# EAGLE library part AGNUS_8361 (library Amiga)
A1000 original Agnus
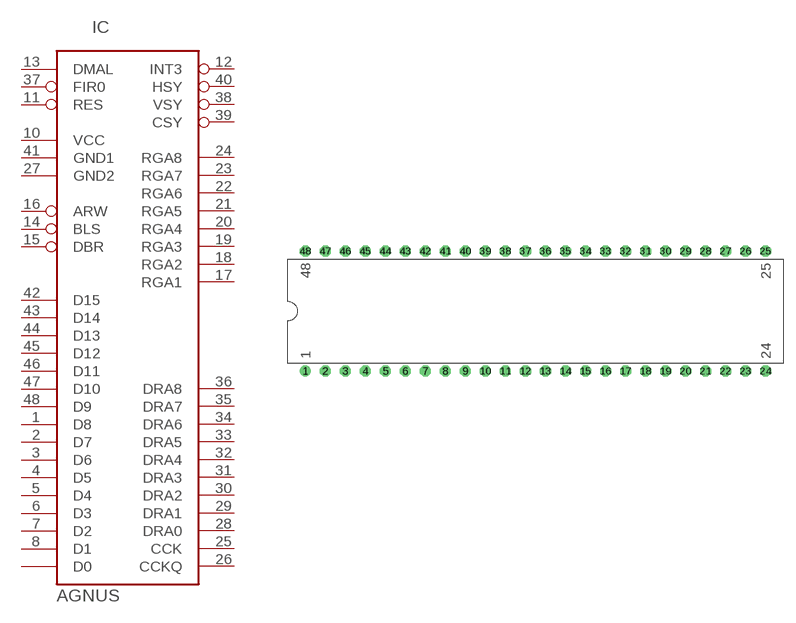
[diagram p9: symbol with the pads of DIP48-6; footprint DIP48-6]

Designator prefix IC

## AGNUS_8361  [DIP48-6]
1  D8
2  D7
3  D6
4  D5
5  D4
6  D3
7  D2
8  D1
9  D0
10  VCC  pwr
11  RES
12  INT3
13  DMAL
14  BLS
15  DBR
16  ARW
17  RGA1
18  RGA2
19  RGA3
20  RGA4
21  RGA5
22  RGA6
23  RGA7
24  RGA8
25  CCK
26  CCKQ
27  GND2  pwr
28  DRA0
29  DRA1
30  DRA2
31  DRA3
32  DRA4
33  DRA5
34  DRA6
35  DRA7
36  DRA8
37  FIR0
38  VSY
39  CSY
40  HSY
41  GND1  pwr
42  D15
43  D14
44  D13
45  D12
46  D11
47  D10
48  D9

## Footprint DIP48-6 (pad centres in mm)
drill 0.8 pad 1.4: 1 -27.94,-7.62
drill 0.8 pad 1.4 octagon: 2 -25.4,-7.62; 3 -22.86,-7.62; 4 -20.32,-7.62; 5 -17.78,-7.62; 6 -15.24,-7.62; 7 -12.7,-7.62; 8 -10.16,-7.62; 9 -7.62,-7.62; 10 -5.08,-7.62; 11 -2.54,-7.62; 12 0,-7.62; 13 2.54,-7.62; 14 5.08,-7.62; 15 7.62,-7.62; 16 10.16,-7.62; 17 12.7,-7.62; 18 15.24,-7.62; 19 17.78,-7.62; 20 20.32,-7.62; 21 22.86,-7.62; 22 25.4,-7.62; 23 27.94,-7.62; 24 30.48,-7.62; 25 30.48,7.62; 26 27.94,7.62; 27 25.4,7.62; 28 22.86,7.62; 29 20.32,7.62; 30 17.78,7.62; 31 15.24,7.62; 32 12.7,7.62; 33 10.16,7.62; 34 7.62,7.62; 35 5.08,7.62; 36 2.54,7.62; 37 0,7.62; 38 -2.54,7.62; 39 -5.08,7.62; 40 -7.62,7.62; 41 -10.16,7.62; 42 -12.7,7.62; 43 -15.24,7.62; 44 -17.78,7.62; 45 -20.32,7.62; 46 -22.86,7.62; 47 -25.4,7.62; 48 -27.94,7.62